# Altium footprint library FPC_6P_0.50mm.PcbLib: 1 footprints
Each footprint in its own frame and in the unit in brackets; x right, y up, seen from the top. Pads: shape width x height; smd on the part's side, far side on the other; paste and mask are expansions set on the pad; w line width, h text height; cw(c..) or ccw(c..) is an arc to the next point about the centre after c.
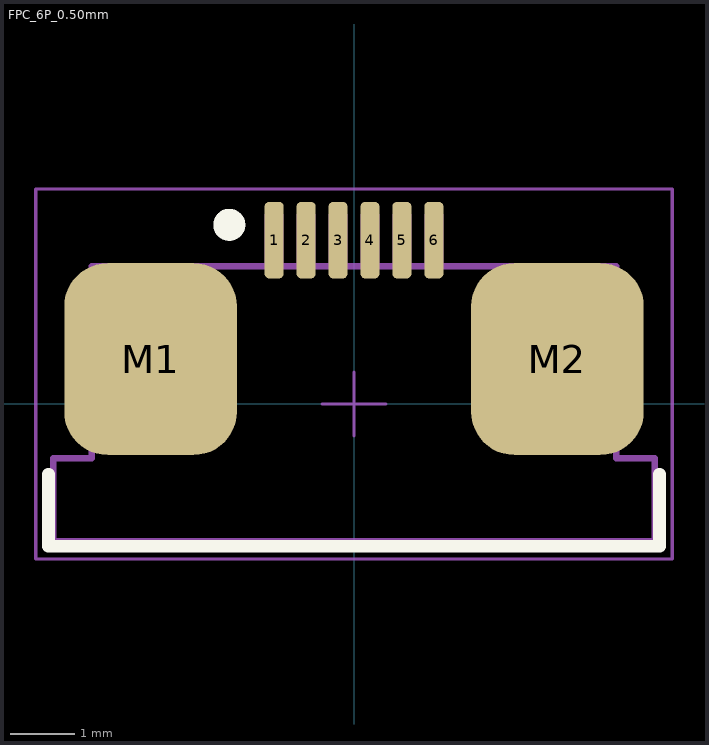
[diagram p0: the footprint, top view; thin cyan lines are the x and y axes]

## FPC_6P_0.50mm [mm]
pads (8):
  rrect50% 0.3x1.2 smd mask+0.05: 1(-1.25,2.56) 2(-0.75,2.56) 3(-0.25,2.56) 4(0.25,2.56) 5(0.75,2.56) 6(1.25,2.56)
  rrect50% 2.7x3 smd: M1(-3.18,0.7) M2(3.18,0.7)
Top Overlay:
  circle w0.25: c-1.95,2.8 r0.125
  lines w0.2: -4.775,-1.1 -4.775,-2.225 4.775,-2.225 4.775,-1.1
Top Designator:
  text ".Designator" at -7.498,-0.5 h1.5
Top Component Outline:
  lines w0.1: -1.35,2.15 -1.35,2.95 -1.15,2.95 -1.15,2.15 ; -0.85,2.15 -0.85,2.95 -0.65,2.95 -0.65,2.15 ; -0.35,2.15 -0.35,2.95 -0.15,2.95 -0.15,2.15 ; 0.15,2.15 0.15,2.95 0.35,2.95 0.35,2.15 ; 0.65,2.15 0.65,2.95 0.85,2.95 0.85,2.15 ; 1.15,2.15 1.15,2.95 1.35,2.95 1.35,2.15 ; -4.7,-2.15 4.7,-2.15 4.7,-0.85 4.1,-0.85 4.1,2.15 -4.1,2.15 -4.1,-0.85 -4.7,-0.85 -4.7,-2.15
Top 3D Body:
  lines w0.1: -1.35,2.15 -1.35,2.95 -1.15,2.95 -1.15,2.15 ; -0.85,2.15 -0.85,2.95 -0.65,2.95 -0.65,2.15 ; -0.35,2.15 -0.35,2.95 -0.15,2.95 -0.15,2.15 ; 0.15,2.15 0.15,2.95 0.35,2.95 0.35,2.15 ; 0.65,2.15 0.65,2.95 0.85,2.95 0.85,2.15 ; 1.15,2.15 1.15,2.95 1.35,2.95 1.35,2.15 ; -4.7,-2.15 -4.7,-0.85 -4.1,-0.85 -4.1,2.15 4.1,2.15 4.1,-0.85 4.7,-0.85 4.7,-2.15 -4.7,-2.15
Top Courtyard:
  lines w0.05: -0.5,0 0.5,0 ; 0,-0.5 0,0.5 ; -4.975,-2.425 4.975,-2.425 4.975,3.36 -4.975,3.36 -4.975,-2.425
3D body "68710614022.stp": height 2.1, standoff 0, extent -4.7,-2.15 4.7,2.95